# EAGLE library part LILYGOPLUSMINI (library LILYGOMINI)
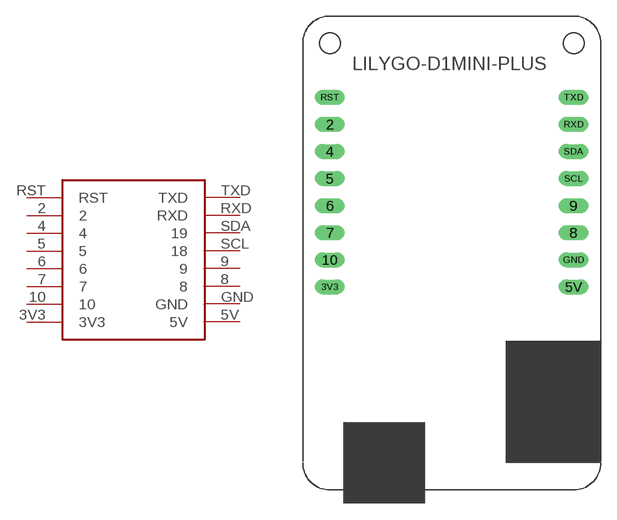
[diagram p0: symbol with the pads of LILYGO-PADS; footprint LILYGO-PADS]

Designator prefix -

## LILYGOPLUSMINI  [LILYGO-PADS]
2  2
3V3  3V3
4  4
5  5
5V  5V
6  6
7  7
8  8
9  9
10  10
GND  GND
RST  RST
RXD  RXD
SCL  18
SDA  19
TXD  TXD

## Footprint LILYGO-PADS (pad centres in mm)
drill 0.9 long: 2 -11.43,6.35; 3V3 -11.43,-8.89; 4 -11.43,3.81; 5 -11.43,1.27; 5V 11.43,-8.89; 6 -11.43,-1.27; 7 -11.43,-3.81; 8 11.43,-3.81; 9 11.43,-1.27; 10 -11.43,-6.35; GND 11.43,-6.35; RST -11.43,8.89; RXD 11.43,6.35; SCL 11.43,1.27; SDA 11.43,3.81; TXD 11.43,8.89